# EAGLE library part PUSHBUTTON_SWITCH (library BaseApp)
On-Off type's Digikey No. : CW179-ND. On-Mom type's Digikey No. : CW180-ND.
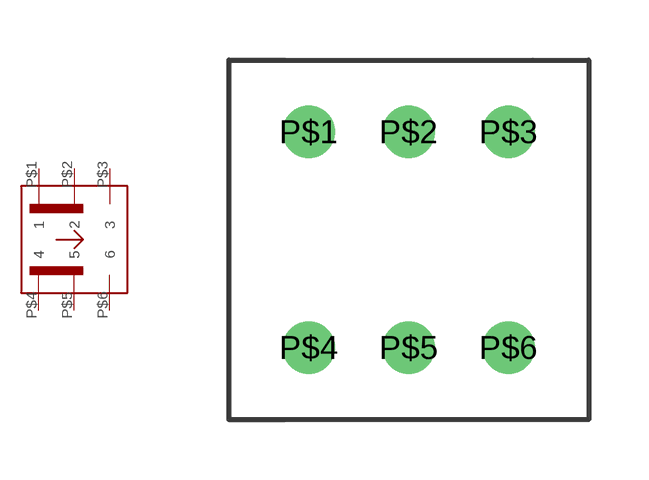
[diagram p89: symbol with the pads of PUSHBUTTON_SWITCH; footprint PUSHBUTTON_SWITCH]

Designator prefix -

## PUSHBUTTON_SWITCH-ON-OFF  [PUSHBUTTON_SWITCH]
P$1  1
P$2  2
P$3  3
P$4  4
P$5  5
P$6  6

## PUSHBUTTON_SWITCH-ON-MOM  [PUSHBUTTON_SWITCH]
Pads as for PUSHBUTTON_SWITCH

## Footprint PUSHBUTTON_SWITCH (pad centres in mm)
drill 0.8: P$1 -2.5,2.7; P$2 0,2.7; P$3 2.5,2.7; P$4 -2.5,-2.7; P$5 0,-2.7; P$6 2.5,-2.7